# Altium footprint library 150nH_inductor_0805_Components - 15.03.22 - 20.58.PcbLib: 1 footprints
Each footprint in its own frame and in the unit in brackets; x right, y up, seen from the top. Pads: shape width x height; smd on the part's side, far side on the other; paste and mask are expansions set on the pad; w line width, h text height; cw(c..) or ccw(c..) is an arc to the next point about the centre after c.
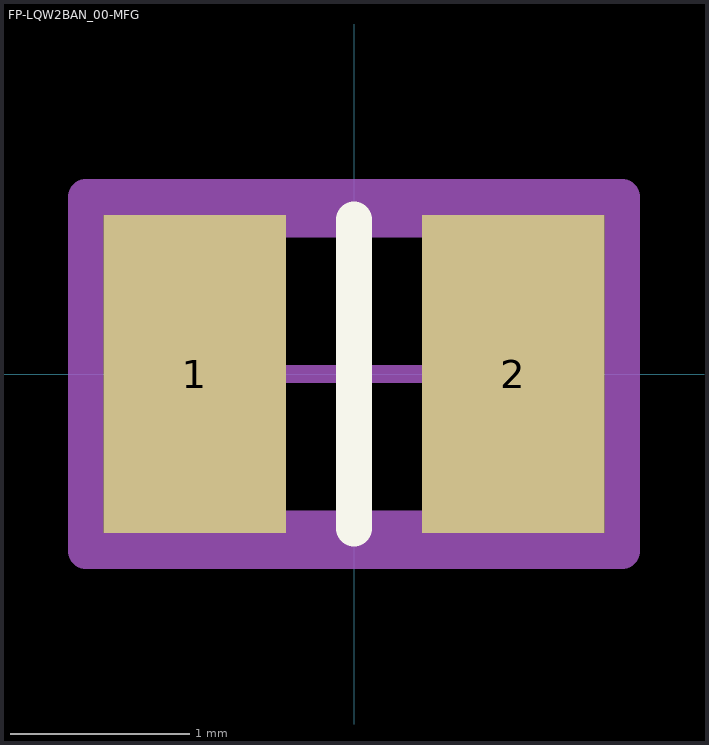
[diagram p0: the footprint, top view; thin cyan lines are the x and y axes]

## FP-LQW2BAN_00-MFG [mm]
pads (2):
  rect 1.02x1.78 smd paste+0 mask+0: 1(-0.89,0) 2(0.89,0)
Top Overlay:
  lines w0.2: 0,-0.865 0,0.865
Top Assembly:
  lines w0.2: -1.5,-0.99 -1.5,0.99 1.5,0.99 1.5,-0.99 -1.5,-0.99
  text ".Designator" at 0,-0.001 h1
Top 3D Body:
  lines w0.2: -1.145,-0.865 -1.145,0.865 1.145,0.865 1.145,-0.865 -1.145,-0.865
Top Courtyard:
  lines w0.2: -1.5,-0.99 -1.5,0.99 1.5,0.99 1.5,-0.99 -1.5,-0.99
Top Component Center:
  lines w0.1: -0.5,0 0.5,0 ; 0,-0.5 0,0.5
3D body "Ind_Murata_LQW2BAN11NG00B_eec.STEP": height 0.25, standoff 0, extent -1.5,-0.99 1.5,0.99